# Altium footprint library QFN50P300X300X65-17N.PcbLib: 1 footprints
Each footprint in its own frame and in the unit in brackets; x right, y up, seen from the top. Pads: shape width x height; smd on the part's side, far side on the other; paste and mask are expansions set on the pad; w line width, h text height; cw(c..) or ccw(c..) is an arc to the next point about the centre after c.
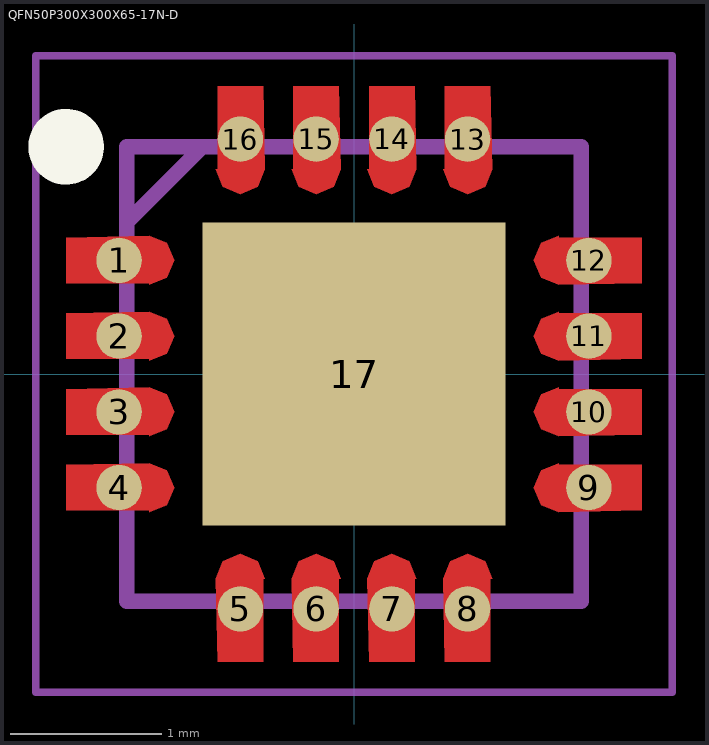
[diagram p0: the footprint, top view; thin cyan lines are the x and y axes]

## QFN50P300X300X65-17N-D [mm]
pads (17):
  round 0.3 smd: 1(-1.55,0.75) 2(-1.55,0.25) 3(-1.55,-0.25) 4(-1.55,-0.75) 5(-0.75,-1.55) 6(-0.25,-1.55) 7(0.25,-1.55) 8(0.75,-1.55) 9(1.55,-0.75) 10(1.55,-0.25) 11(1.55,0.25) 12(1.55,0.75) 13(0.75,1.55) 14(0.25,1.55) 15(-0.25,1.55) 16(-0.75,1.55)
  rrect0% 2x2 smd: 17(0,0)
L0 (Multiple PADS layers...):
  region: -1.9,0.9 -1.35,0.912 -1.235,0.865 -1.188,0.75 -1.235,0.635 -1.35,0.588 -1.35,0.6 -1.9,0.6
  region: -1.9,0.4 -1.35,0.412 -1.235,0.365 -1.188,0.25 -1.235,0.135 -1.35,0.088 -1.35,0.1 -1.9,0.1
  region: -1.9,-0.1 -1.35,-0.088 -1.235,-0.135 -1.188,-0.25 -1.235,-0.365 -1.35,-0.412 -1.35,-0.4 -1.9,-0.4
  region: -1.9,-0.6 -1.35,-0.588 -1.235,-0.635 -1.188,-0.75 -1.235,-0.865 -1.35,-0.912 -1.35,-0.9 -1.9,-0.9
  region: -0.9,-1.9 -0.912,-1.35 -0.865,-1.235 -0.75,-1.188 -0.635,-1.235 -0.588,-1.35 -0.6,-1.35 -0.6,-1.9
  region: -0.4,-1.9 -0.412,-1.35 -0.365,-1.235 -0.25,-1.188 -0.135,-1.235 -0.088,-1.35 -0.1,-1.35 -0.1,-1.9
  region: 0.1,-1.9 0.088,-1.35 0.135,-1.235 0.25,-1.188 0.365,-1.235 0.412,-1.35 0.4,-1.35 0.4,-1.9
  region: 0.6,-1.9 0.588,-1.35 0.635,-1.235 0.75,-1.188 0.865,-1.235 0.912,-1.35 0.9,-1.35 0.9,-1.9
  region: 1.9,-0.9 1.35,-0.912 1.235,-0.865 1.188,-0.75 1.235,-0.635 1.35,-0.588 1.35,-0.6 1.9,-0.6
  region: 1.9,-0.4 1.35,-0.412 1.235,-0.365 1.188,-0.25 1.235,-0.135 1.35,-0.088 1.35,-0.1 1.9,-0.1
  region: 1.9,0.1 1.35,0.088 1.235,0.135 1.188,0.25 1.235,0.365 1.35,0.412 1.35,0.4 1.9,0.4
  region: 1.9,0.6 1.35,0.588 1.235,0.635 1.188,0.75 1.235,0.865 1.35,0.912 1.35,0.9 1.9,0.9
  region: 0.9,1.9 0.912,1.35 0.865,1.235 0.75,1.188 0.635,1.235 0.588,1.35 0.6,1.35 0.6,1.9
  region: 0.4,1.9 0.412,1.35 0.365,1.235 0.25,1.188 0.135,1.235 0.088,1.35 0.1,1.35 0.1,1.9
  region: -0.1,1.9 -0.088,1.35 -0.135,1.235 -0.25,1.188 -0.365,1.235 -0.412,1.35 -0.4,1.35 -0.4,1.9
  region: -0.6,1.9 -0.588,1.35 -0.635,1.235 -0.75,1.188 -0.865,1.235 -0.912,1.35 -0.9,1.35 -0.9,1.9
L26-Silk Screen Top (Multiple PADS layers...):
  circle w0.25: c-1.9,1.5 r0.125
L15 (Multiple PADS layers...):
  lines w0.1: -1.5,1 -1,1.5 ; -1.5,-1.5 1.5,-1.5 1.5,1.5 -1.5,1.5 -1.5,-1.5
L20:
  lines w0.05: -2.1,-2.1 2.1,-2.1 2.1,2.1 -2.1,2.1 -2.1,-2.1